# Altium schematic symbol library Módulos y Tarjetas.SchLib: 17 symbols
Pins are listed as number, name and electrical type; pins without a type are passive.

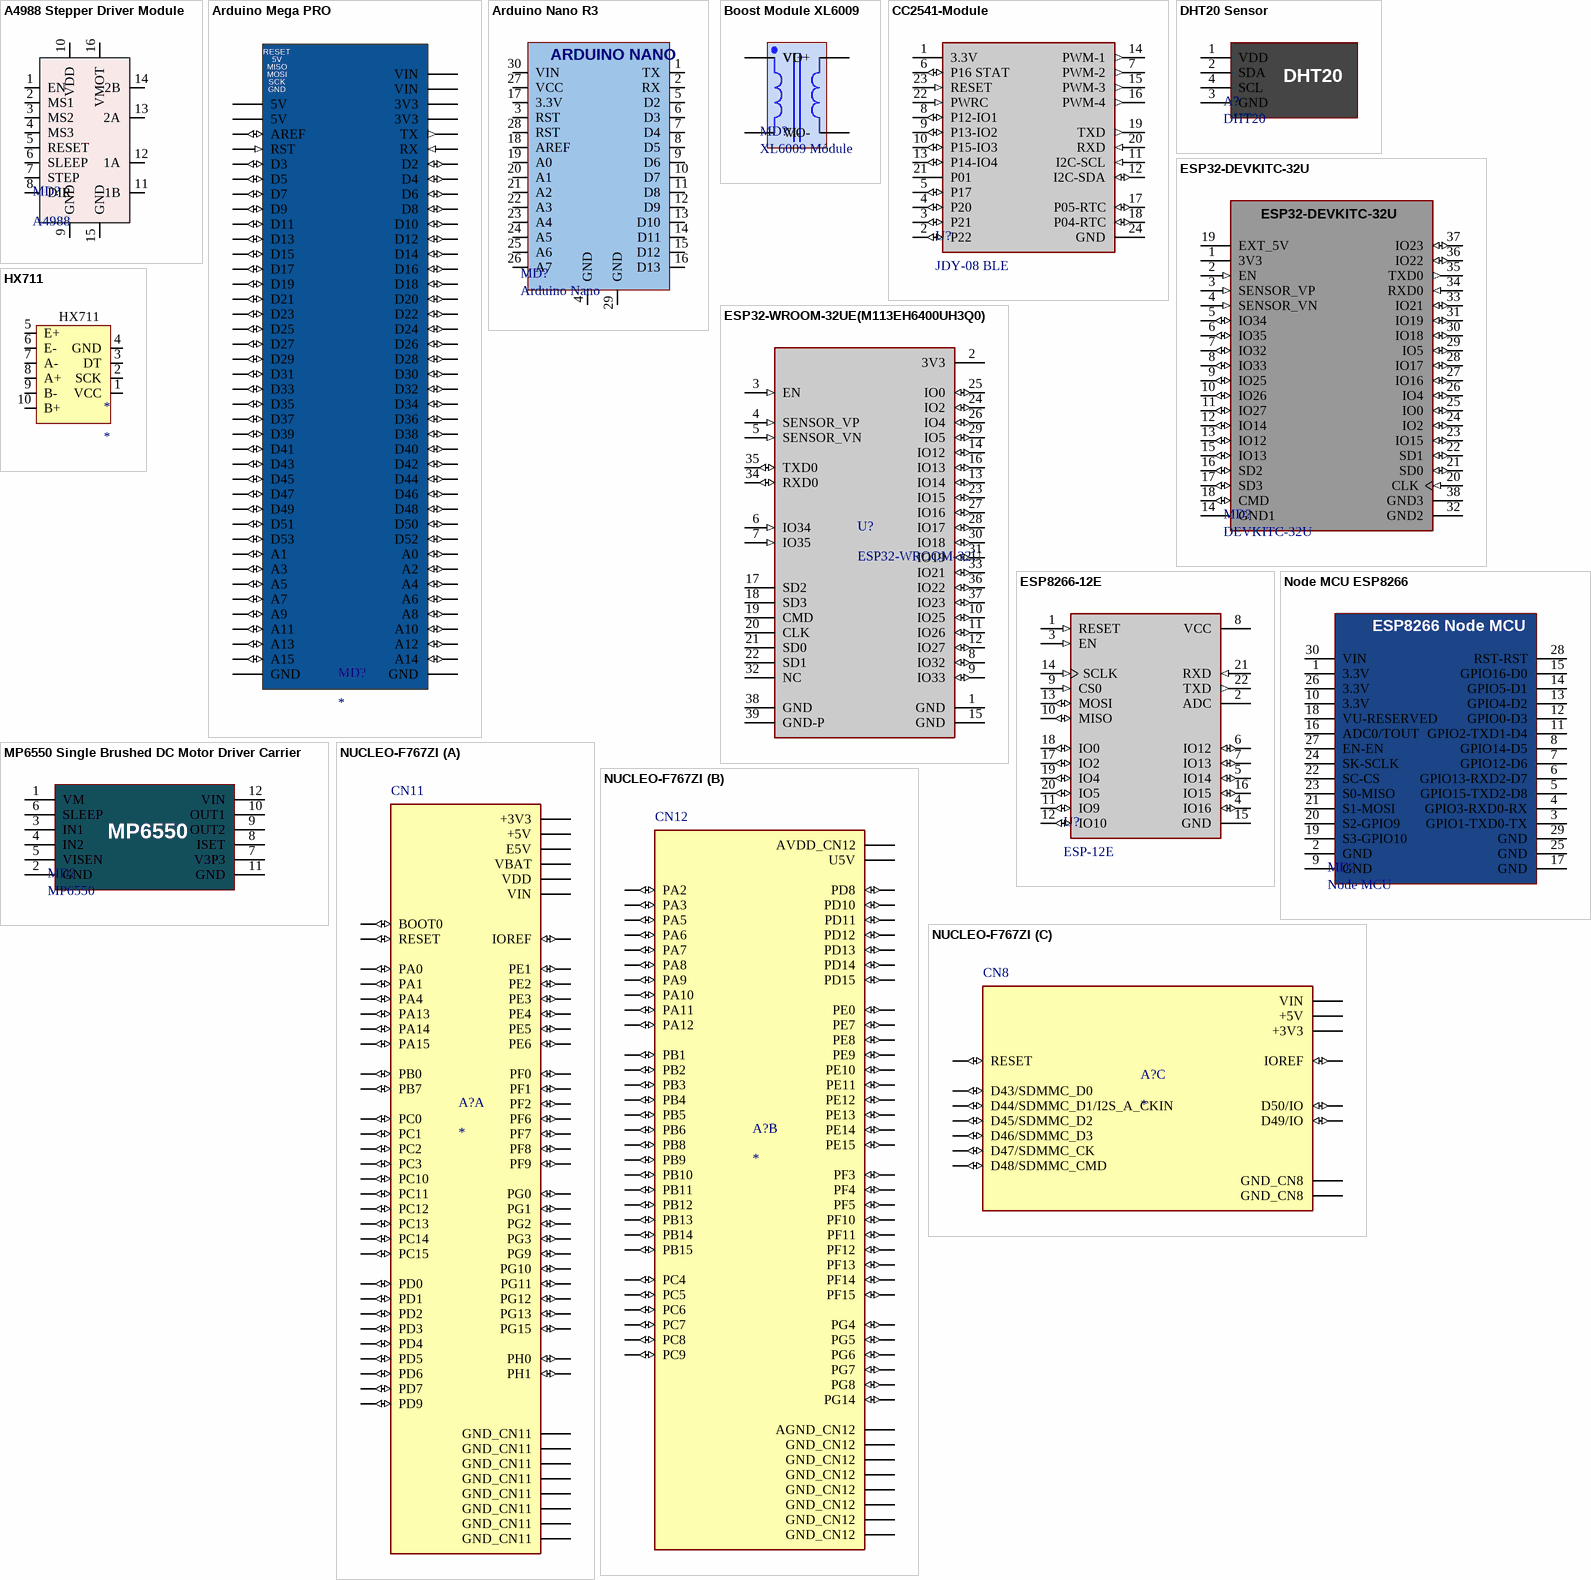
[diagram p0: symbols A4988 Stepper Driver Module to NUCLEO-F767ZI]

## A4988 Stepper Driver Module
designator MD?, comment A4988
Stepper Motor Driver Module
footprint A4988 Módulo (Stepper Module A4988)
pins: 1 EN, 2 MS1, 3 MS2, 4 MS3, 5 RESET, 6 SLEEP, 7 STEP, 8 DIR, 9 GND, 10 VDD, 11 1B, 12 1A, 13 2A, 14 2B, 15 GND, 16 VMOT

## Arduino Mega PRO
designator MD?
Mega 2560 PRO (Embed) CH340G/ATmega2560-16AU; MP: Mega Pro Embed CH340G / ATmega2560; MF: Robotdyn; Package: Package; Price: None; Availability: Unavailable; Value: *; SnapEDA_Link: https://www.snapeda.com/parts/Mega%20Pro%20Embed%20CH340G%20/%20ATmega2560/Robotdyn/view-part/4052597/?ref=snap
footprint Mega 2560 PRO (Arduino Mega 2560 PRO)
pins: 3V3_1 3V3 (power), 3V3_2 3V3 (power), 5V_1 5V (power), 5V_2 5V (power), A0 (io), A1 (io), A2 (io), A3 (io), A4 (io), A5 (io), A6 (io), A7 (io), A8 (io), A9 (io), A10 (io), A11 (io), A12 (io), A13 (io), A14 (io), A15 (io), AREF (io), D2 (io), D3 (io), D4 (io), D5 (io), D6 (io), D7 (io), D8 (io), D9 (io), D10 (io), D11 (io), D12 (io), D13 (io), D14 (io), D15 (io), D16 (io), D17 (io), D18 (io), D19 (io), D20 (io), D21 (io), D22 (io), D23 (io), D24 (io), D25 (io), D26 (io), D27 (io), D28 (io), D29 (io), D30 (io), D31 (io), D32 (io), D33 (io), D34 (io), D35 (io), D36 (io), D37 (io), D38 (io), D39 (io), D40 (io), D41 (io), D42 (io), D43 (io), D44 (io), D45 (io), D46 (io), D47 (io), D48 (io), D49 (io), D50 (io), D51 (io), D52 (io), D53 (io), GND_1 GND (power), GND_2 GND (power), RST (in), RX (in), TX (out), VIN_1 VIN (power), VIN_2 VIN (power)
text: RESET; MISO; MOSI; SCK

## Arduino Nano R3
designator MD?, comment Arduino Nano
Arduino Board compatible ATMega328
footprint ARDUINO NANO
pins: 1 TX, 2 RX, 3 RST, 4 GND, 5 D2, 6 D3, 7 D4, 8 D5, 9 D6, 10 D7, 11 D8, 12 D9, 13 D10, 14 D11, 15 D12, 16 D13, 17 3.3V, 18 AREF, 19 A0, 20 A1, 21 A2, 22 A3, 23 A4, 24 A5, 25 A6, 26 A7, 27 VCC, 28 RST, 29 GND, 30 VIN
text: ARDUINO NANO

## Boost Module XL6009
designator MD?, comment XL6009 Módule
DC-DC Boost Converter Module Asselmbled; ComponentLink1Description: Boost Converter; ComponentLink1URL: https://aelectronics.com.mx/index.php?id_product=1210&controller=product&search_query=boost&results=4
footprint Boost Module XL6009 (Boost Converter DC-DC)
pins: 1 VO+, 2 VI+, 3 VO-, 4 VI-

## CC2541-Module
designator U?, comment JDY-08 BLE
BLE Module CC254x JDY-08; MF: Espressif Systems; MP: ESP32-WROOM-32UE(M113EH6400UH3Q0); Package: None; Purchase-URL: https://pricing.snapeda.com/search/part/ESP32-WROOM-32UE(M113EH6400UH3Q0)/?ref=eda; Value: *; Price: None; Check_prices: https://www.snapeda.com/parts/ESP32-WROOM-32UE(M113EH6400UH3Q0)/Espressif%20Systems/view-part/4796024/?ref=eda; SnapEDA_Link: https://www.snapeda.com/parts/ESP32-WROOM-32UE(M113EH6400UH3Q0)/Espressif%20Systems/view-part/4796024/?ref=snap; Availability: Warning
footprint JDY-08 BLE Module CC2541
pins: 1 3.3V (power), 2 P22 (io), 3 P21 (io), 4 P20 (io), 5 P17 (io), 6 P16 STAT (io), 7 PWM-2 (out), 8 P12-IO1 (io), 9 P13-IO2 (io), 10 P15-IO3 (io), 11 I2C-SCL (in), 12 I2C-SDA (io), 13 P14-IO4 (io), 14 PWM-1 (out), 15 PWM-3 (out), 16 PWM-4 (out), 17 P05-RTC (io), 18 P04-RTC (io), 19 TXD (out), 20 RXD (in), 21 P01, 22 PWRC (in), 23 RESET (in), 24 GND

## DHT20 Sensor
designator A?, comment DHT20
SIP Packaged Temperature and Humidity Sensor; ComponentLink1Description: Info Component; ComponentLink1URL: http://www.aosong.com/en/products-67.html
footprint SIP 4 Packaged (SIP Packaged 4 Pin 2.54mm)
pins: 1 VDD, 2 SDA, 3 GND, 4 SCL

## ESP32-DEVKITC-32U
designator MD?, comment DEVKITC-32U
ESP32 WIFI/BLUEETOOTH MODULE 32U 48PIN
footprint ESP32 DEVKIT U
pins: 1 3V3 (power), 2 EN (in), 3 SENSOR_VP (in), 4 SENSOR_VN (in), 5 IO34 (io), 6 IO35 (io), 7 IO32 (io), 8 IO33 (io), 9 IO25 (io), 10 IO26 (io), 11 IO27 (io), 12 IO14 (io), 13 IO12 (io), 14 GND1 (power), 15 IO13 (io), 16 SD2 (io), 17 SD3 (io), 18 CMD (io), 19 EXT_5V (power), 20 CLK (in), 21 SD0 (io), 22 SD1 (io), 23 IO15 (io), 24 IO2 (io), 25 IO0 (io), 26 IO4 (io), 27 IO16 (io), 28 IO17 (io), 29 IO5 (io), 30 IO18 (io), 31 IO19 (io), 32 GND2 (power), 33 IO21 (io), 34 RXD0 (in), 35 TXD0 (out), 36 IO22 (io), 37 IO23 (io), 38 GND3 (power)

## ESP32-WROOM-32UE(M113EH6400UH3Q0)
designator U?, comment ESP32-WROOM-32U
WiFi Modules (802.11) SMD module ESP32-D0WD-V3, ESP32 ECO V3, 8 MB SPI flash, IPEX antenna connector; MF: Espressif Systems; MP: ESP32-WROOM-32UE(M113EH6400UH3Q0); Package: None; Purchase-URL: https://pricing.snapeda.com/search/part/ESP32-WROOM-32UE(M113EH6400UH3Q0)/?ref=eda; Value: *; Price: None; Check_prices: https://www.snapeda.com/parts/ESP32-WROOM-32UE(M113EH6400UH3Q0)/Espressif%20Systems/view-part/4796024/?ref=eda; SnapEDA_Link: https://www.snapeda.com/parts/ESP32-WROOM-32UE(M113EH6400UH3Q0)/Espressif%20Systems/view-part/4796024/?ref=snap; Availability: Warning
footprint MODULE_ESP32-WROOM-32UE(M113EH6400UH3Q0)
pins: 1 GND (power), 2 3V3 (power), 3 EN (in), 4 SENSOR_VP (in), 5 SENSOR_VN (in), 6 IO34 (in), 7 IO35 (in), 8 IO32 (io), 9 IO33 (io), 10 IO25 (io), 11 IO26 (io), 12 IO27 (io), 13 IO14 (io), 14 IO12 (io), 15 GND (power), 16 IO13 (io), 17 SD2, 18 SD3, 19 CMD, 20 CLK, 21 SD0, 22 SD1, 23 IO15 (io), 24 IO2 (io), 25 IO0 (io), 26 IO4 (io), 27 IO16 (io), 28 IO17 (io), 29 IO5 (io), 30 IO18 (io), 31 IO19 (io), 32 NC, 33 IO21 (io), 34 RXD0 (io), 35 TXD0 (io), 36 IO22 (io), 37 IO23 (io), 38 GND (power), 39 GND-P (power), 39_2 GND (power), 39_3 GND (power), 39_4 GND (power), 39_5 GND (power), 39_6 GND (power), 39_7 GND (power), 39_8 GND (power), 39_9 GND (power), 39_10 GND (power), 39_11 GND (power), 39_12 GND (power), 39_13 GND (power), 39_14 GND (power), 39_15 GND (power), 39_16 GND (power), 39_17 GND (power), 39_18 GND (power), 39_19 GND (power), 39_20 GND (power), 39_21 GND (power)

## ESP8266-12E
designator U?, comment ESP-12E
WiFi Modules 802.11  ESP8266; MF: Espressif Systems; MP: ESP32-WROOM-32UE(M113EH6400UH3Q0); Package: None; Purchase-URL: https://pricing.snapeda.com/search/part/ESP32-WROOM-32UE(M113EH6400UH3Q0)/?ref=eda; Value: *; Price: None; Check_prices: https://www.snapeda.com/parts/ESP32-WROOM-32UE(M113EH6400UH3Q0)/Espressif%20Systems/view-part/4796024/?ref=eda; SnapEDA_Link: https://www.snapeda.com/parts/ESP32-WROOM-32UE(M113EH6400UH3Q0)/Espressif%20Systems/view-part/4796024/?ref=snap; Availability: Warning
footprint ESP8266 Wifi Module (ESP12E Model)
pins: 1 RESET (in), 2 ADC, 3 EN (in), 4 IO16 (io), 5 IO14 (io), 6 IO12 (io), 7 IO13 (io), 8 VCC (power), 9 CS0 (in), 10 MISO (io), 11 IO9 (io), 12 IO10 (io), 13 MOSI (io), 14 SCLK (in), 15 GND (power), 16 IO15 (io), 17 IO2 (io), 18 IO0 (io), 19 IO4 (io), 20 IO5 (io), 21 RXD (in), 22 TXD (out)

## HX711
designator *
footprint HX711 (módulo convertidor analógico-digital (ADC) de 24 bits de alta precisión)
footprint HX711 (módulo convertidor analógico-digital (ADC) de 24 bits de alta precisión)
pins: 1 VCC, 2 SCK, 3 DT, 4 GND, 5 E+, 6 E-, 7 A-, 8 A+, 9 B-, 10 B+

## MP6550 Single Brushed DC Motor Driver Carrier
designator MD?, comment MP6550
The MP6550 from Monolithic Power Systems (MPS) is an H-bridge motor driver IC that can be used for bidirectional control of one brushed DC motor at 1.8 V to 22 V. It can supply up to about 1.7 A continuously and features configurable current sensing and current limiting. Since this board is a carrier for the MP6550, we recommend careful reading of the MP6550 datasheet (714k pdf). The board ships populated with all of its SMD components, including the MP6550.
footprint MP6550 Pololu (MP6550 Single Brushed DC Motor Driver Carrier)
pins: 1 VM, 2 GND, 3 IN1, 4 IN2, 5 VISEN, 6 SLEEP, 7 V3P3, 8 ISET, 9 OUT2, 10 OUT1, 11 GND, 12 VIN

## Node MCU ESP8266
designator MD?, comment Node MCU
ESP8266 Wifi Module Lolin Version 30 Pin
footprint Node MCU Lolin ESP8266 (Node MCU ESP8266 Embbebed 30 Pin Module)
pins: 1 3.3V, 2 GND, 3 GPIO1-TXD0-TX, 4 GPIO3-RXD0-RX, 5 GPIO15-TXD2-D8, 6 GPIO13-RXD2-D7, 7 GPIO12-D6, 8 GPIO14-D5, 9 GND, 10 3.3V, 11 GPIO2-TXD1-D4, 12 GPIO0-D3, 13 GPIO4-D2, 14 GPIO5-D1, 15 GPIO16-D0, 16 ADC0/TOUT, 17 GND, 18 VU-RESERVED, 19 S3-GPIO10, 20 S2-GPIO9, 21 S1-MOSI, 22 SC-CS, 23 S0-MISO, 24 SK-SCLK, 25 GND, 26 3.3V, 27 EN-EN, 28 RST-RST, 29 GND, 30 VIN
text: ESP8266 Node MCU

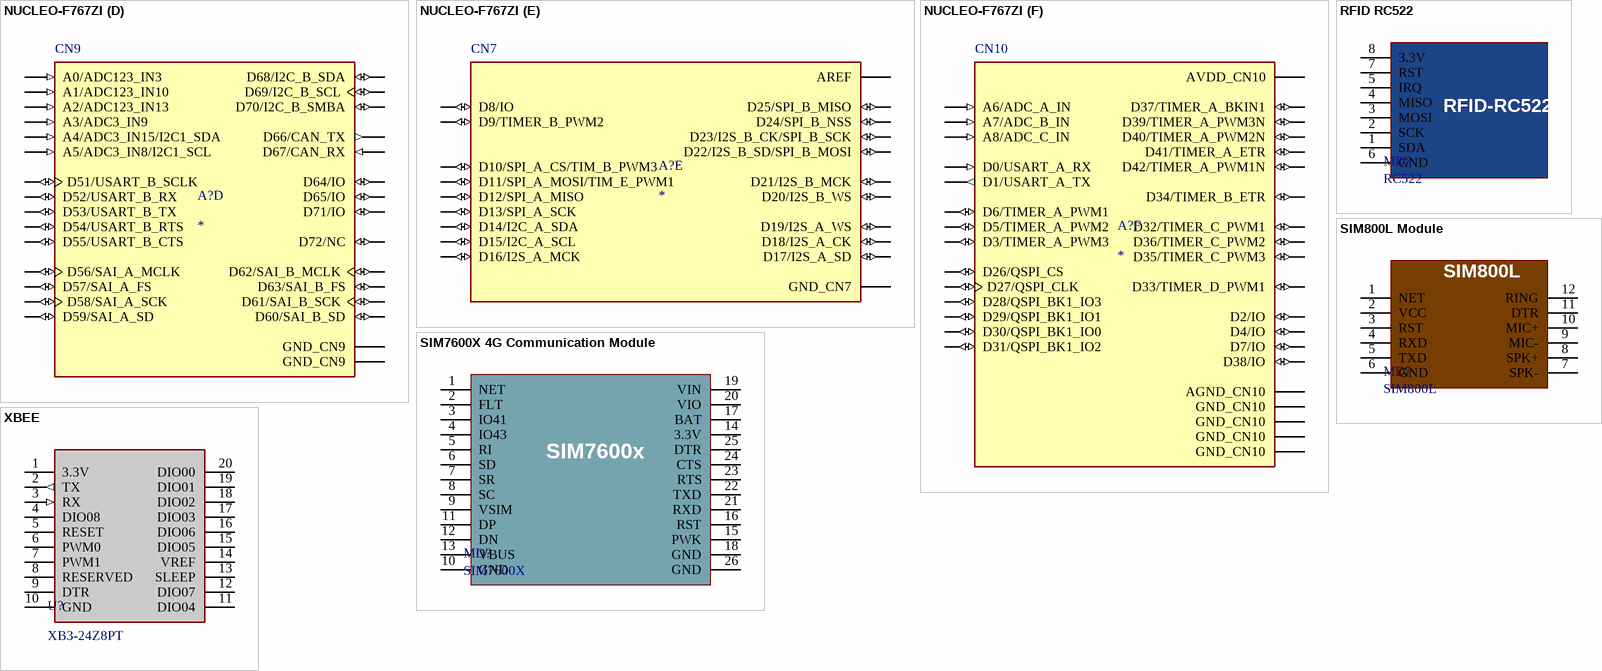
[diagram p1: symbols NUCLEO-F767ZI to XBEE]

## NUCLEO-F767ZI
designator A?
STM32 Nucleo-144 development board with STM32F767ZI MCU, supports Arduino, ST Zio and morpho connectivity; MP: NUCLEO-F767ZI; MF: STMicroelectronics; Package: None; Price: None; Value: *; Availability: Unavailable
footprint ST_NUCLEO-F767ZI
part A pins: CN11_1 PC10 (io), CN11_2 PC11 (io), CN11_3 PC12 (io), CN11_4 PD2 (io), CN11_5 VDD (power), CN11_6 E5V (power), CN11_7 BOOT0 (io), CN11_8 GND_CN11 (power), CN11_9 PF6 (io), CN11_11 PF7 (io), CN11_12 IOREF (io), CN11_13 PA13 (io), CN11_14 RESET (io), CN11_15 PA14 (io), CN11_16 +3V3 (power), CN11_17 PA15 (io), CN11_18 +5V (power), CN11_19 GND_CN11 (power), CN11_20 GND_CN11 (power), CN11_21 PB7 (io), CN11_22 GND_CN11 (power), CN11_23 PC13 (io), CN11_24 VIN (power), CN11_25 PC14 (io), CN11_27 PC15 (io), CN11_28 PA0 (io), CN11_29 PH0 (io), CN11_30 PA1 (io), CN11_31 PH1 (io), CN11_32 PA4 (io), CN11_33 VBAT (power), CN11_34 PB0 (io), CN11_35 PC2 (io), CN11_36 PC1 (io), CN11_37 PC3 (io), CN11_38 PC0 (io), CN11_39 PD4 (io), CN11_40 PD3 (io), CN11_41 PD5 (io), CN11_42 PG2 (io), CN11_43 PD6 (io), CN11_44 PG3 (io), CN11_45 PD7 (io), CN11_46 PE2 (io), CN11_47 PE3 (io), CN11_48 PE4 (io), CN11_49 GND_CN11 (power), CN11_50 PE5 (io), CN11_51 PF1 (io), CN11_52 PF2 (io), CN11_53 PF0 (io), CN11_54 PF8 (io), CN11_55 PD1 (io), CN11_56 PF9 (io), CN11_57 PD0 (io), CN11_58 PG1 (io), CN11_59 PG0 (io), CN11_60 GND_CN11 (power), CN11_61 PE1 (io), CN11_62 PE6 (io), CN11_63 PG9 (io), CN11_64 PG15 (io), CN11_65 PG12 (io), CN11_66 PG10 (io), CN11_68 PG13 (io), CN11_69 PD9 (io), CN11_70 PG11 (io), CN11_71 GND_CN11 (power), CN11_72 GND_CN11 (power)
part B pins: CN12_1 PC9 (io), CN12_2 PC8 (io), CN12_3 PB8 (io), CN12_4 PC6 (io), CN12_5 PB9 (io), CN12_6 PC5 (io), CN12_7 AVDD_CN12 (power), CN12_8 U5V (power), CN12_9 GND_CN12 (power), CN12_10 PD8 (io), CN12_11 PA5 (io), CN12_12 PA12 (io), CN12_13 PA6 (io), CN12_14 PA11 (io), CN12_15 PA7 (io), CN12_16 PB12 (io), CN12_17 PB6 (io), CN12_18 PB11 (io), CN12_19 PC7 (io), CN12_20 GND_CN12 (power), CN12_21 PA9 (io), CN12_22 PB2 (io), CN12_23 PA8 (io), CN12_24 PB1 (io), CN12_25 PB10 (io), CN12_26 PB15 (io), CN12_27 PB4 (io), CN12_28 PB14 (io), CN12_29 PB5 (io), CN12_30 PB13 (io), CN12_31 PB3 (io), CN12_32 AGND_CN12 (power), CN12_33 PA10 (io), CN12_34 PC4 (io), CN12_35 PA2 (io), CN12_36 PF5 (io), CN12_37 PA3 (io), CN12_38 PF4 (io), CN12_39 GND_CN12 (power), CN12_40 PE8 (io), CN12_41 PD13 (io), CN12_42 PF10 (io), CN12_43 PD12 (io), CN12_44 PE7 (io), CN12_45 PD11 (io), CN12_46 PD14 (io), CN12_47 PE10 (io), CN12_48 PD15 (io), CN12_49 PE12 (io), CN12_50 PF14 (io), CN12_51 PE14 (io), CN12_52 PE9 (io), CN12_53 PE15 (io), CN12_54 GND_CN12 (power), CN12_55 PE13 (io), CN12_56 PE11 (io), CN12_57 PF13 (io), CN12_58 PF3 (io), CN12_59 PF12 (io), CN12_60 PF15 (io), CN12_61 PG14 (io), CN12_62 PF11 (io), CN12_63 GND_CN12 (power), CN12_64 PE0 (io), CN12_65 PD10 (io), CN12_66 PG8 (io), CN12_67 PG7 (io), CN12_68 PG5 (io), CN12_69 PG4 (io), CN12_70 PG6 (io), CN12_71 GND_CN12 (power), CN12_72 GND_CN12 (power)
part C pins: CN8_2 D43/SDMMC_D0 (io), CN8_3 IOREF (io), CN8_4 D44/SDMMC_D1/I2S_A_CKIN (io), CN8_5 RESET (io), CN8_6 D45/SDMMC_D2 (io), CN8_7 +3V3 (power), CN8_8 D46/SDMMC_D3 (io), CN8_9 +5V (power), CN8_10 D47/SDMMC_CK (io), CN8_11 GND_CN8 (power), CN8_12 D48/SDMMC_CMD (io), CN8_13 GND_CN8 (power), CN8_14 D49/IO (io), CN8_15 VIN (power), CN8_16 D50/IO (io)
part D pins: CN9_1 A0/ADC123_IN3 (in), CN9_2 D51/USART_B_SCLK (io), CN9_3 A1/ADC123_IN10 (in), CN9_4 D52/USART_B_RX (io), CN9_5 A2/ADC123_IN13 (in), CN9_6 D53/USART_B_TX (io), CN9_7 A3/ADC3_IN9 (in), CN9_8 D54/USART_B_RTS (io), CN9_9 A4/ADC3_IN15/I2C1_SDA (in), CN9_10 D55/USART_B_CTS (io), CN9_11 A5/ADC3_IN8/I2C1_SCL (in), CN9_12 GND_CN9 (power), CN9_13 D72/NC (io), CN9_14 D56/SAI_A_MCLK (io), CN9_15 D71/IO (io), CN9_16 D57/SAI_A_FS (io), CN9_17 D70/I2C_B_SMBA (io), CN9_18 D58/SAI_A_SCK (io), CN9_19 D69/I2C_B_SCL (io), CN9_20 D59/SAI_A_SD (io), CN9_21 D68/I2C_B_SDA (io), CN9_22 D60/SAI_B_SD (io), CN9_23 GND_CN9 (power), CN9_24 D61/SAI_B_SCK (io), CN9_25 D67/CAN_RX (in), CN9_26 D62/SAI_B_MCLK (io), CN9_27 D66/CAN_TX (out), CN9_28 D63/SAI_B_FS (io), CN9_29 D65/IO (io), CN9_30 D64/IO (io)
part E pins: CN7_1 D16/I2S_A_MCK (io), CN7_2 D15/I2C_A_SCL (io), CN7_3 D17/I2S_A_SD (io), CN7_4 D14/I2C_A_SDA (io), CN7_5 D18/I2S_A_CK (io), CN7_6 AREF (power), CN7_7 D19/I2S_A_WS (io), CN7_8 GND_CN7 (power), CN7_9 D20/I2S_B_WS (io), CN7_10 D13/SPI_A_SCK (io), CN7_11 D21/I2S_B_MCK (io), CN7_12 D12/SPI_A_MISO (io), CN7_13 D22/I2S_B_SD/SPI_B_MOSI (io), CN7_14 D11/SPI_A_MOSI/TIM_E_PWM1 (io), CN7_15 D23/I2S_B_CK/SPI_B_SCK (io), CN7_16 D10/SPI_A_CS/TIM_B_PWM3 (io), CN7_17 D24/SPI_B_NSS (io), CN7_18 D9/TIMER_B_PWM2 (io), CN7_19 D25/SPI_B_MISO (io), CN7_20 D8/IO (io)
part F pins: CN10_1 AVDD_CN10 (power), CN10_2 D7/IO (io), CN10_3 AGND_CN10 (power), CN10_4 D6/TIMER_A_PWM1 (io), CN10_5 GND_CN10 (power), CN10_6 D5/TIMER_A_PWM2 (io), CN10_7 A6/ADC_A_IN (in), CN10_8 D4/IO (io), CN10_9 A7/ADC_B_IN (in), CN10_10 D3/TIMER_A_PWM3 (io), CN10_11 A8/ADC_C_IN (in), CN10_12 D2/IO (io), CN10_13 D26/QSPI_CS (io), CN10_14 D1/USART_A_TX (out), CN10_15 D27/QSPI_CLK (io), CN10_16 D0/USART_A_RX (in), CN10_17 GND_CN10 (power), CN10_18 D42/TIMER_A_PWM1N (io), CN10_19 D28/QSPI_BK1_IO3 (io), CN10_20 D41/TIMER_A_ETR (io), CN10_21 D29/QSPI_BK1_IO1 (io), CN10_22 GND_CN10 (power), CN10_23 D30/QSPI_BK1_IO0 (io), CN10_24 D40/TIMER_A_PWM2N (io), CN10_25 D31/QSPI_BK1_IO2 (io), CN10_26 D39/TIMER_A_PWM3N (io), CN10_27 GND_CN10 (power), CN10_28 D38/IO (io), CN10_29 D32/TIMER_C_PWM1 (io), CN10_30 D37/TIMER_A_BKIN1 (io), CN10_31 D33/TIMER_D_PWM1 (io), CN10_32 D36/TIMER_C_PWM2 (io), CN10_33 D34/TIMER_B_ETR (io), CN10_34 D35/TIMER_C_PWM3 (io)
part A text: CN11
part B text: CN12
part C text: CN8
part D text: CN9
part E text: CN7
part F text: CN10

## RFID RC522
designator MD?, comment RC522
RC522 RFID Module I2C/SPI
footprint RC522 RFID (RFID MODULE SPI/I2C)
pins: 1 SDA, 2 SCK, 3 MOSI, 4 MISO, 5 IRQ, 6 GND, 7 RST, 8 3.3V
text: RFID-RC522

## SIM800L Module
designator MD?, comment SIM800L
GSM Module
footprint SIM800L (GSM MODULE)
pins: 1 NET, 2 VCC, 3 RST, 4 RXD, 5 TXD, 6 GND, 7 SPK-, 8 SPK+, 9 MIC-, 10 MIC+, 11 DTR, 12 RING

## SIM7600X 4G Communication Module
designator MD?, comment SIM7600X
4G Communication Module, Multi-band Support, Compatible with 4G/3G/2G, With GNSS Positioning
footprint SIM7600X  Breakout (SIM7600X 4G Breakout Waveshare)
pins: 1 NET, 2 FLT, 3 IO41, 4 IO43, 5 RI, 6 SD, 7 SR, 8 SC, 9 VSIM, 10 GND, 11 DP, 12 DN, 13 VBUS, 14 3.3V, 15 PWK, 16 RST, 17 BAT, 18 GND, 19 VIN, 20 VIO, 21 RXD, 22 TXD, 23 RTS, 24 CTS, 25 DTR, 26 GND
text: SIM7600x

## XBEE
designator U?, comment XB3-24Z8PT
Modulo RF Zigbee
footprint XBEE
pins: 1 3.3V (power), 2 TX (out), 3 RX (in), 4 DIO08, 5 RESET, 6 PWM0, 7 PWM1, 8 RESERVED, 9 DTR, 10 GND, 11 DIO04, 12 DIO07, 13 SLEEP, 14 VREF, 15 DIO05, 16 DIO06, 17 DIO03, 18 DIO02, 19 DIO01, 20 DIO00